# Altium schematic symbol library FIT2017_UnoShield.SchLib: 6 symbols
Pins are listed as number, name and electrical type; pins without a type are passive.

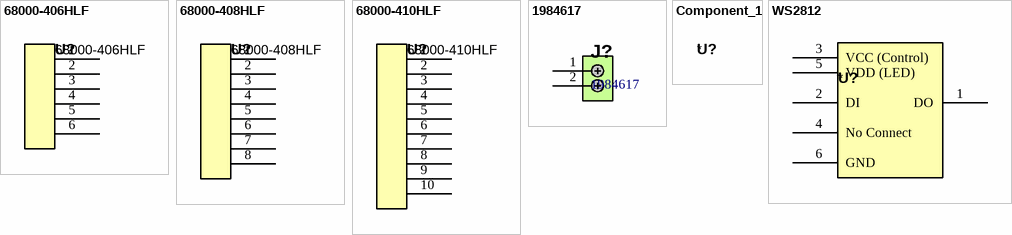
[diagram p0: symbols 68000-406HLF to WS2812]

## 68000-406HLF
designator U?
CONN HEADER 6POS .100 STR TIN; Manufacturer: Amphenol FCI; Pitch - Mating: 0.100" (2.54mm); Number of Positions: 6; Number of Positions Loaded: All; Style: Board to Board; Shrouding: Unshrouded; Contact Length - Mating: 0.230" (5.84mm); Contact Length - Post: 0.095" (2.41mm); Overall Contact Length: 0.425" (10.80mm); Material Flammability Rating: UL94 V-0; Value: 68000-406HLF; Supplier 1: Digi-Key; Supplier Part Number 1: 609-3263-ND; Manufacturer Part Number: 68000-406HLF; RoHS: RoHS Compliant; Category: Connectors, Interconnects; Stock 1: 12972; Pricing 1: 1=0.25, 10=0.233, 100=0.1615, 500=0.13662, 1000=0.11178, 5000=0.09936, 10000=0.09005 (USD); Packaging: Bulk; Part Status: Active; Connector Type: Header; Contact Type: Male Pin; Number of Rows: 1; Row Spacing - Mating: -; Mounting Type: Through Hole; Termination: Solder; Fastening Type: Push-Pull; Insulation Height: 0.100" (2.54mm); Contact Shape: Square; Contact Finish - Mating: Tin; Contact Finish Thickness - Mating: 100µin (2.54µm); Contact Finish - Post: Tin; Contact Material: Phosphor Bronze; Insulation Material: -; Features: -; Operating Temperature: -; Ingress Protection: -; Insulation Color: Black; Current Rating: -; Voltage Rating: -; Mated Stacking Heights: -; Contact Finish Thickness - Post: -; Applications: -; ComponentLink1URL: http://portal.fciconnect.com/Comergent//fci/drawing/68000.pdf; ComponentLink1Description: http://portal.fciconnect.com/Comergent//fci/drawing/68000.pdf
footprint 68000-406HLF_Bottom Mount (6-pin Header "Bottom Mounted")
pins: 1, 2, 3, 4, 5, 6

## 68000-408HLF
designator U?
CONN HEADER 8POS .100 STR TIN; Manufacturer: Amphenol FCI; Pitch - Mating: 0.100" (2.54mm); Number of Positions: 8; Number of Positions Loaded: All; Style: Board to Board; Shrouding: Unshrouded; Contact Length - Mating: 0.230" (5.84mm); Contact Length - Post: 0.095" (2.41mm); Overall Contact Length: 0.425" (10.80mm); Material Flammability Rating: UL94 V-0; Value: 68000-408HLF; Supplier 1: Digi-Key; Supplier Part Number 1: 609-3264-ND; Manufacturer Part Number: 68000-408HLF; RoHS: RoHS Compliant; Category: Connectors, Interconnects; Stock 1: 4195; Pricing 1: 1=0.27, 10=0.256, 100=0.1789, 500=0.1533, 1000=0.12775, 5000=0.1095, 10000=0.1022 (USD); Packaging: Bulk; Part Status: Active; Connector Type: Header; Contact Type: Male Pin; Number of Rows: 1; Row Spacing - Mating: -; Mounting Type: Through Hole; Termination: Solder; Fastening Type: Push-Pull; Insulation Height: 0.100" (2.54mm); Contact Shape: Square; Contact Finish - Mating: Tin; Contact Finish Thickness - Mating: 100µin (2.54µm); Contact Finish - Post: Tin; Contact Material: Phosphor Bronze; Insulation Material: -; Features: -; Operating Temperature: -; Ingress Protection: -; Insulation Color: Black; Current Rating: -; Voltage Rating: -; Mated Stacking Heights: -; Contact Finish Thickness - Post: -; Applications: -; ComponentLink1URL: http://portal.fciconnect.com/Comergent//fci/drawing/68000.pdf; ComponentLink1Description: http://portal.fciconnect.com/Comergent//fci/drawing/68000.pdf
footprint 68000-408HLF_Bottom Mount (8-pin Header "Bottom Mounted")
pins: 1, 2, 3, 4, 5, 6, 7, 8

## 68000-410HLF
designator U?
10 Positions Header, Unshrouded Connector 0.100" (2.54mm) Through Hole Tin; Manufacturer: Amphenol FCI; Current Rating: 3A; Voltage Rating: 1.5kV; Number of Positions: 10; Insulation Resistance: 5GR; Gender: Male; Connector Type: Male Pin; Mating Post Length: 5.84mm; Value: 68000-410HLF; Supplier 1: Avnet; Supplier Part Number 1: 68000-410HLF; Manufacturer Part Number: 68000-410HLF; Stock 1: 0; Pricing 1: 600=0.1616, 1200=0.1577, 2400=0.1542, 3600=0.1508, 6000=0.1489 (USD); Mount: Through Hole; Case/Package: 100; Contact Plating: Nickel,Tin; Contact Material: Bronze; Colour: Black; Housing Colour: Black; Housing Material: Thermoplastic; Min Operating Temperature: -65°C; Max Operating Temperature: 125°C; Number of Rows: 1; Contact Gender: Male; Packaging: Bulk; Package Quantity: 100; Termination: Solder; Number of Contacts: 10; Max Voltage Rating (AC): 1.5kV; Orientation: Straight; Length: 25.4mm; Pitch: 2.54mm; Termination Post Length: 2.41mm; Contact Mating Length: 0.23inch; Depth: 2.41mm; Flammability Rating: UL94 V-0; REACH SVHC: No SVHC; ComponentLink1URL: https://datasheet.ciiva.com/728/68000-728932.pdf; ComponentLink1Description: https://datasheet.ciiva.com/728/68000-728932.pdf; ComponentLink2URL: https://datasheet.ciiva.com/10140/68000-10140107.pdf; ComponentLink2Description: https://datasheet.ciiva.com/10140/68000-10140107.pdf
footprint 68000-410HLF_Bottom Mount (10-pin Header "Bottom Mounted")
pins: 1, 2, 3, 4, 5, 6, 7, 8, 9, 10

## 1984617
designator J?
CONN TERM BLOCK T/H 2POS 3.5MM; Manufacturer: Phoenix Contact; Number of Levels: 1; Positions Per Level: 2; Pitch: 0.138" (3.50mm); Mating Orientation: Horizontal with Board; Current: 10A; Voltage: 300V; Wire Gauge: 16-26 AWG; Wire Termination: Screw - Rising Cage Clamp; Torque - Screw: 0.22-0.25 Nm (1.9-2.2 Lb-In); Screw Thread: M2; Supplier 1: Digi-Key; Supplier Part Number 1: 277-1721-ND; Manufacturer Part Number: 1984617; RoHS: RoHS Compliant; Category: Connectors, Interconnects; Stock 1: 10915; Pricing 1: 1=0.34, 10=0.322, 50=0.308, 100=0.2996, 250=0.28, 500=0.2576, 1000=0.238 (USD); Mounting Type: Through Hole; Features: Interlocking (Side); Color: Green; Packaging: Bulk; Operating Temperature: -; Housing Material: Polyamide (PA), Nylon; Contact Material - Plating: -; Clamp Material - Plating: -; Screw Material - Plating: -; ComponentLink1URL: http://media.digikey.com/pdf/Data%20Sheets/Phoenix%20Contact%20PDFs/1984617.pdf; ComponentLink1Description: http://media.digikey.com/pdf/Data%20Sheets/Phoenix%20Contact%20PDFs/1984617.pdf; Value: 1984617
footprint 1984617 (Footprint not found)
pins: 1, 2

## Component_1
designator U?
Value: *

## WS2812
designator U?
Value: *
footprint WS2812
pins: 1 DO, 2 DI, 3 VCC (Control), 4 No Connect, 5 VDD (LED), 6 GND